# Altium schematic symbol library Devices.SchLib: 4 symbols
Pins are listed as number, name and electrical type; pins without a type are passive.

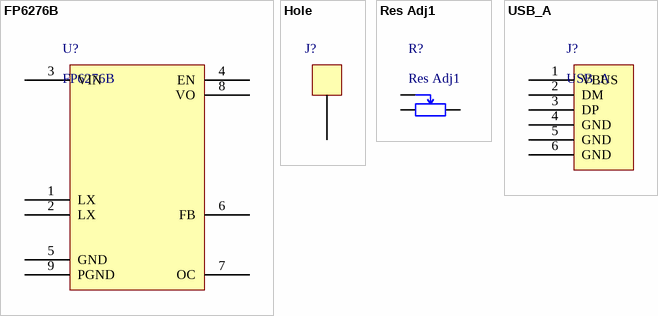
[diagram p0: symbols FP6276B to USB_A]

## FP6276B
designator U?
footprint SOP8L_EP
pins: 1 LX, 2 LX, 3 VIN, 4 EN, 5 GND, 6 FB, 7 OC, 8 VO, 9 PGND

## Hole
designator J?  (value not drawn)
pins: 1

## Res Adj1
designator R?
footprint VZ067 (VZ067 Variable Resistor)
pins: 1, 2, 3

## USB_A
designator J?
footprint USB-A dip
pins: 1 VBUS, 2 DM, 3 DP, 4 GND, 5 GND, 6 GND